# Altium footprint library 心率血氧2PcbLib1.PcbLib: 16 footprints
Each footprint in its own frame and in the unit in brackets; x right, y up, seen from the top. Pads: shape width x height; smd on the part's side, far side on the other; paste and mask are expansions set on the pad; w line width, h text height; cw(c..) or ccw(c..) is an arc to the next point about the centre after c.
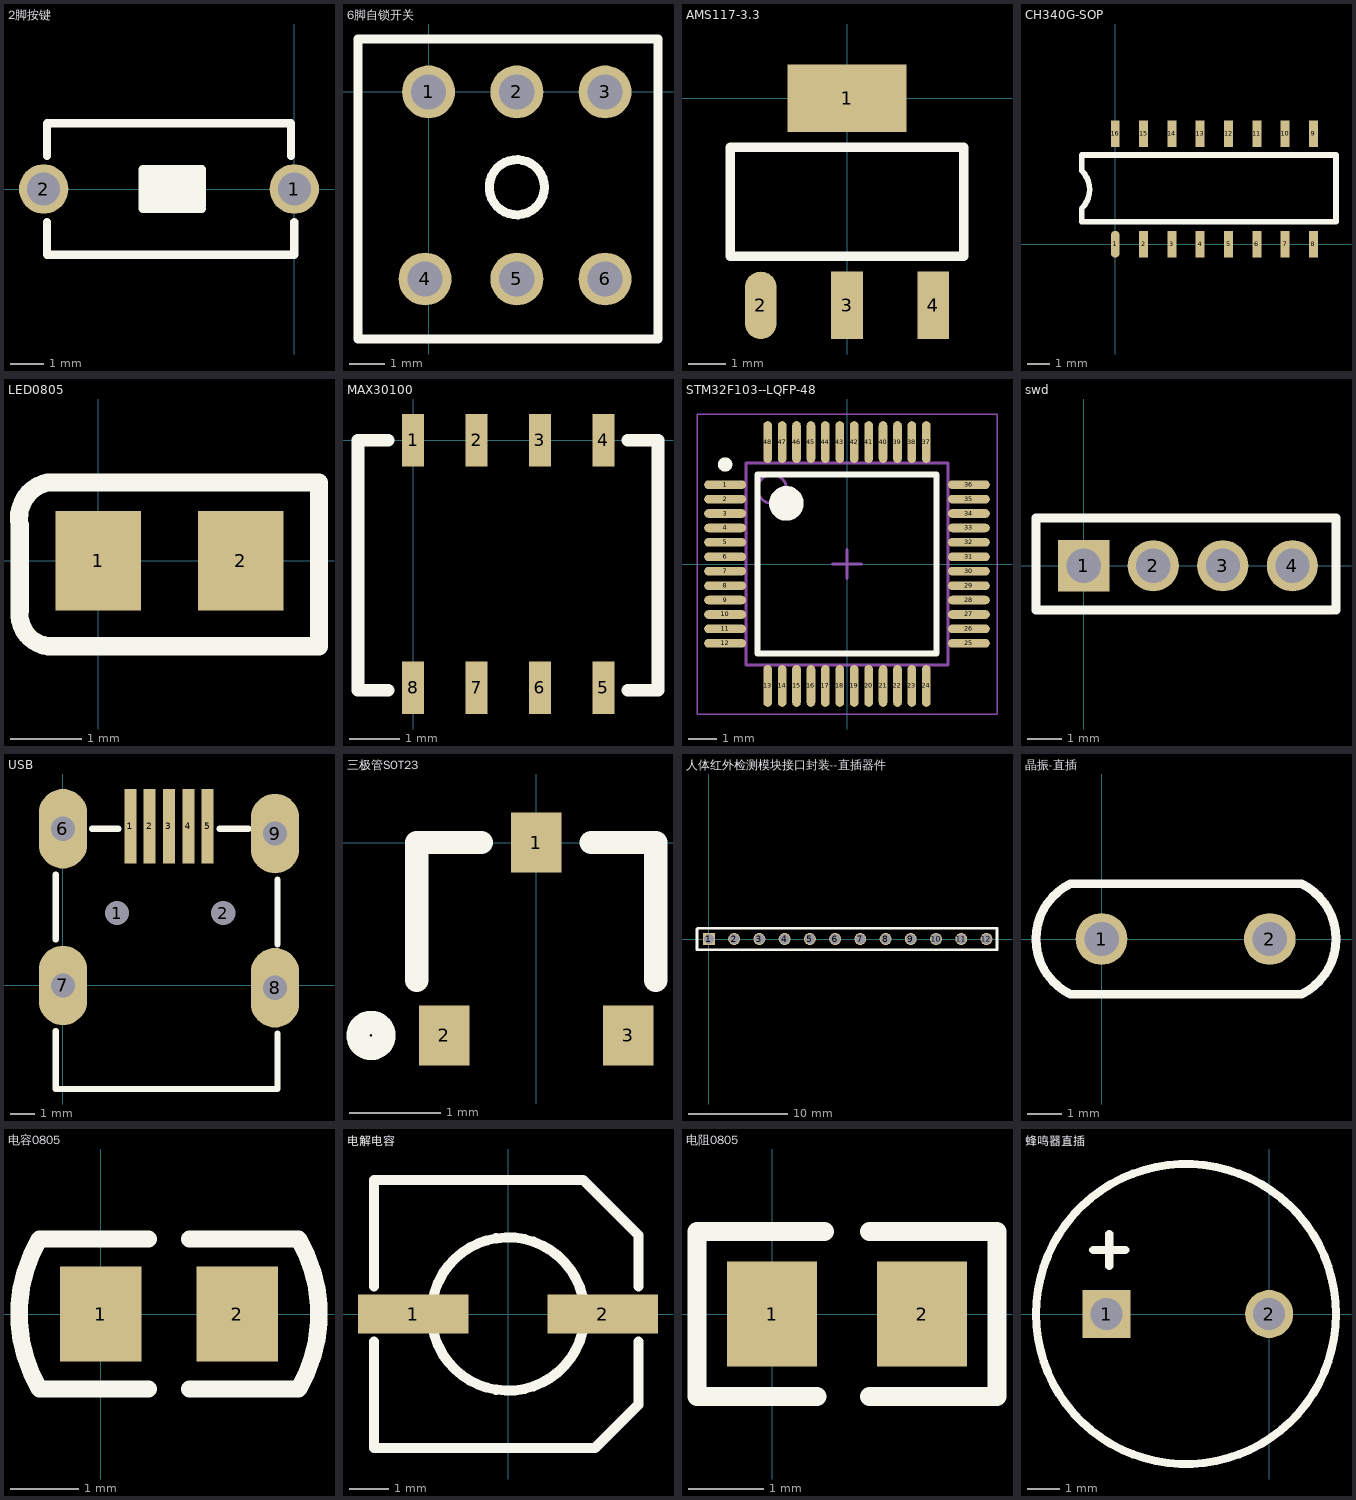
[diagram p0: the footprints below, top view; thin cyan lines are the x and y axes]

## 2脚按键 [mm]
pads (2):
  round 1.5 hole 1: 1(0,0) 2(-7.6,0)
Top Overlay:
  lines w0.254: -7.5,-1 -7.5,-2 0,-2 0,-1 ; -7.5,1 -7.5,2 -0.1,2 -0.1,1 ; -4.4,0 -3.3,0 -3.3,-0.2 -3.9,-0.2 ; -4,0 -4.2,-0.2 ; -4.6,-0.6 -2.8,-0.6 ; -4.6,-0.6 -4.6,0.6 -2.8,0.6 -2.8,-0.5 -2.9,-0.6 ; -4.6,-0.6 -4.4,-0.4 ; -4.4,-0.4 -4.4,0.4 -3,0.4 -2.9,0.3 -2.9,-0.6 ; -4.4,-0.4 -3.1,-0.4 ; -4.4,-0.4 -4.2,-0.2 ; -4.2,-0.2 -4.2,0.2 -3.1,0.2 -3.1,-0.4 ; -4.2,-0.2 -3.9,-0.2 ; -3.9,-0.2 -3.7,-0.4 -3.1,-0.4 ; -3.9,-0.2 -3.9,-0.2 ; -3.1,-0.4 -2.9,-0.6 ; -3.1,-0.4 -3.1,-0.4 ; -2.9,-0.6 -2.8,-0.6 ; -2.8,-0.6 -2.8,-0.6

## 6脚自锁开关 [mm]
pads (6):
  round 1.5 hole 1: 1(0,0) 2(2.5,0) 3(5,0) 4(-0.1,-5.3) 5(2.5,-5.3) 6(5,-5.3)
Top Overlay:
  circle w0.254: c2.5,-2.7 r0.781
  lines w0.254: -2,-7 -2,1.5 6.5,1.5 6.5,-7 -2,-7

## AMS117-3.3 [mm]
pads (4):
  rect 3.15x1.79 smd: 1(0,0)
  oval 0.84x1.79 smd: 2(-2.29,-5.5)
  rect 0.84x1.79 smd: 3(0,-5.5) 4(2.29,-5.5)
Top Overlay:
  lines w0.254: -3.1,-4.2 3.1,-4.2 3.1,-1.3 -3.1,-1.3 -3.1,-4.2

## CH340G-SOP [mm]
pads (16):
  oval 0.4x1.2 smd: 1(0,0)
  rect 0.4x1.2 smd: 2(1.27,0) 3(2.54,0) 4(3.81,0) 5(5.08,0) 6(6.35,0) 7(7.62,0) 8(8.89,0) 9(8.89,4.95) 10(7.62,4.95) 11(6.35,4.95) 12(5.08,4.95) 13(3.81,4.95) 14(2.54,4.95) 15(1.27,4.95) 16(0,4.95)
Top Overlay:
  lines w0.254: -1.5,1 9.9,1 9.9,4 -1.5,4 -1.5,3.3 cw(c-2.35,2.45) -1.5,1.6 -1.5,1

## LED0805 [mm]
pads (2):
  rect 1.2x1.4 smd: 1(0,0) 2(2,0)
Top Overlay:
  lines w0.254: -1.1,-0.7 ccw(c-0.65,-0.75) -0.7,-1.2 3.1,-1.2 3.1,-1 3.1,1.1 -0.7,1.1 ccw(c-0.6,0.6) -1.1,0.5 -1.1,-0.7

## MAX30100 [mm]
pads (8):
  rect 0.445x1.05 smd: 1(0,0) 2(1.27,0) 3(2.54,0) 4(3.81,0) 5(3.81,-4.95) 6(2.54,-4.95) 7(1.27,-4.95) 8(0,-4.95)
Top Overlay:
  lines w0.254: -0.5,-5 -1.1,-5 -1.1,0 -0.5,0 ; 4.3,-5 4.9,-5 4.9,0 4.3,0

## STM32F103--LQFP-48 [mm] "TSQFP, 48-Leads, Body 7.00x7.00mm, Pitch 0.50mm, IPC Medium Density"
height 1.6
pads (48):
  oval 1.45x0.3 smd: 1(-4.225,2.75) 2(-4.225,2.25) 3(-4.225,1.75) 4(-4.225,1.25) 5(-4.225,0.75) 6(-4.225,0.25) 7(-4.225,-0.25) 8(-4.225,-0.75) 9(-4.225,-1.25) 10(-4.225,-1.75) 11(-4.225,-2.25) 12(-4.225,-2.75) 25(4.225,-2.75) 26(4.225,-2.25) 27(4.225,-1.75) 28(4.225,-1.25) 29(4.225,-0.75) 30(4.225,-0.25) 31(4.225,0.25) 32(4.225,0.75) 33(4.225,1.25) 34(4.225,1.75) 35(4.225,2.25) 36(4.225,2.75)
  oval 0.3x1.45 smd: 13(-2.75,-4.225) 14(-2.25,-4.225) 15(-1.75,-4.225) 16(-1.25,-4.225) 17(-0.75,-4.225) 18(-0.25,-4.225) 19(0.25,-4.225) 20(0.75,-4.225) 21(1.25,-4.225) 22(1.75,-4.225) 23(2.25,-4.225) 24(2.75,-4.225) 37(2.75,4.225) 38(2.25,4.225) 39(1.75,4.225) 40(1.25,4.225) 41(0.75,4.225) 42(0.25,4.225) 43(-0.25,4.225) 44(-0.75,4.225) 45(-1.25,4.225) 46(-1.75,4.225) 47(-2.25,4.225) 48(-2.75,4.225)
Top Overlay:
  circle w0.25: c-4.225,3.45 r0.125
  circle w0.6: c-2.1,2.1 r0.3
  lines w0.2: -3.1,-3.1 -3.1,3.1 3.1,3.1 3.1,-3.1 -3.1,-3.1
Mechanical 13:
  circle w0.1: c-2.6,2.6 r0.5
  lines w0.1: -3.5,-3.5 -3.5,3.5 3.5,3.5 3.5,-3.5 -3.5,-3.5
Mechanical 15:
  lines w0.05: -5.2,-5.2 -5.2,5.2 5.2,5.2 5.2,-5.2 -5.2,-5.2
  lines w0.1: -0.5,0 0.5,0 ; 0,-0.5 0,0.5
3D body: height 1.6, standoff 0.05, extent -3.5,-3.5 3.5,3.5

## swd [mm]
pads (4):
  rect 1.5x1.5 hole 1: 1(0,0)
  round 1.5 hole 1: 2(2.04,0) 3(4.08,0) 4(6.12,0)
Top Overlay:
  lines w0.254: 7.3,-1.3 -1.4,-1.3 -1.4,1.4 -0.9,1.4 7.4,1.4 7.4,-1.3

## USB [mm]
pads (11):
  round 0.9 hole 1: 1(2.25,3) 2(6.65,3)
  rect 0.5x3.1 smd: 1(2.8,6.6) 2(3.6,6.6) 3(4.4,6.6) 4(5.2,6.6) 5(6,6.6)
  oval 2x3.3 hole 1: 6(0,6.5) 7(0,0) 8(8.8,-0.1) 9(8.8,6.3)
Top Overlay:
  lines w0.254: -0.3,-1.9 -0.3,-4.3 8.9,-4.3 8.9,-2 ; -0.3,1.9 -0.3,4.6 ; 1.2,6.5 2.3,6.5 ; 6.5,6.5 7.7,6.5 ; 8.9,1.7 8.9,4.4

## 三极管SOT23 [mm]
pads (3):
  rect 0.55x0.65 smd: 1(0,0) 2(-1,-2.1) 3(1,-2.1)
Top Overlay:
  circle w0.254: c-1.8,-2.1 r0.141
  lines w0.254: -1.3,-1.5 -1.3,0 -0.6,0 ; 0.6,0 1.3,0 1.3,-1.5

## 人体红外检测模块接口封装--直插器件 [mm]
pads (12):
  rect 1.2x1.2 hole 1: 1(0,0)
  round 1.2 hole 1: 2(2.54,0) 3(5.08,0) 4(7.62,0) 5(10.16,0) 6(12.7,0) 7(15.24,0) 8(17.78,0) 9(20.32,0) 10(22.86,0) 11(25.4,0) 12(27.94,0)
Top Overlay:
  lines w0.254: -1.2,-1.1 -1.2,1 -1.1,1.1 29,1.1 29,0.9 29,-1.1 -1,-1.1

## 晶振-直插 [mm]
pads (2):
  round 1.5 hole 1: 1(0,0) 2(4.88,0)
Top Overlay:
  lines w0.254: -0.9,-1.6 cw(c-0.12,0) -0.9,1.6 5.8,1.6 cw(c5.02,0) 5.8,-1.6 -0.9,-1.6

## 电容0805 [mm]
pads (2):
  rect 1.2x1.4 smd: 1(0,0) 2(2,0)
Top Overlay:
  lines w0.254: 0.7,-1.1 -0.9,-1.1 cw(c0.967,0) -0.9,1.1 0.7,1.1 ; 1.3,-1.1 2.9,-1.1 ccw(c1.033,0) 2.9,1.1 1.3,1.1

## 电解电容 [mm]
pads (2):
  rect 2.8x1 smd: 1(-2.4,0) 2(2.4,0)
Top Overlay:
  circle w0.254: c0,0 r1.942
  lines w0.254: -3.4,-0.7 -3.4,-3.4 2.2,-3.4 3.3,-2.3 3.3,-2 3.3,-0.7 ; -3.4,0.7 -3.4,3.4 1.5,3.4 1.7,3.4 1.9,3.4 3.3,2 3.3,0.7

## 电阻0805 [mm]
pads (2):
  rect 1.2x1.4 smd: 1(0,0) 2(2,0)
Top Overlay:
  lines w0.254: 0.6,-1.1 -1,-1.1 -1,1.1 0.7,1.1 ; 1.3,-1.1 3,-1.1 3,1.1 1.3,1.1

## 蜂鸣器直插 [mm]
pads (2):
  rect 1.5x1.5 hole 1: 1(-5.08,0)
  round 1.5 hole 1: 2(0,0)
Top Overlay:
  circle w0.254: c-2.6,0 r4.687
  lines w0.254: -5.5,2 -4.5,2 ; -5,1.5 -5,2.5